# Altium schematic symbol library p-mosfet-SSSGDDDD.Schlib: 1 symbol
Pins are listed as number, name and electrical type; pins without a type are passive.

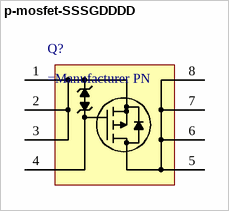
[diagram p0: symbol p-mosfet-SSSGDDDD]

## p-mosfet-SSSGDDDD
designator Q?
P-Channel MOSFET, 8-pin
pins: 1 S, 2 S, 3 S, 4 G, 5 D, 6 D, 7 D, 8 D